# Altium footprint library SOD2513X120N.PcbLib: 1 footprints
Each footprint in its own frame and in the unit in brackets; x right, y up, seen from the top. Pads: shape width x height; smd on the part's side, far side on the other; paste and mask are expansions set on the pad; w line width, h text height; cw(c..) or ccw(c..) is an arc to the next point about the centre after c.
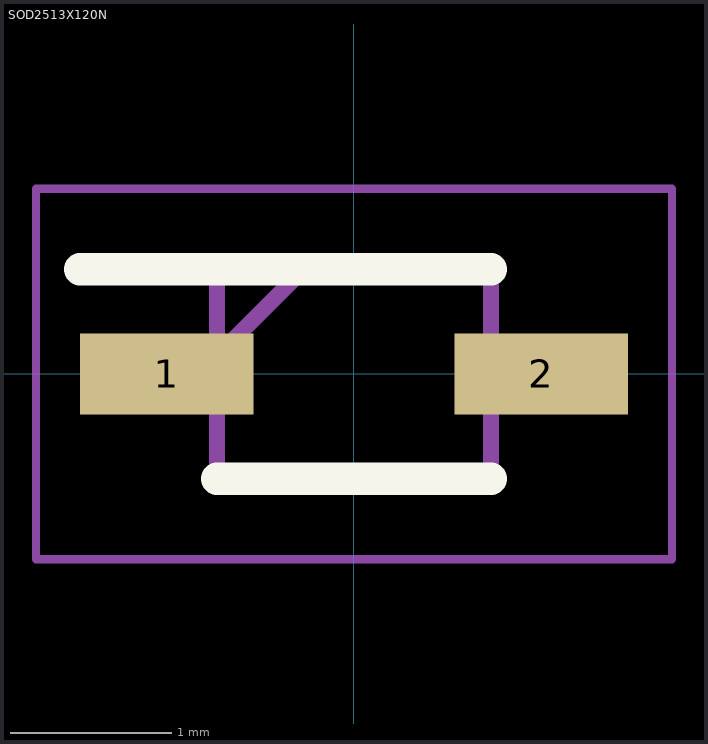
[diagram p0: the footprint, top view; thin cyan lines are the x and y axes]

## SOD2513X120N [mm]
pads (2):
  rect 1.075x0.5 smd: 1(-1.162,0) 2(1.162,0)
L26-Silk Screen Top (Multiple PADS layers...):
  lines w0.2: -1.7,0.65 0.85,0.65 ; -0.85,-0.65 0.85,-0.65
L15 (Multiple PADS layers...):
  lines w0.1: -0.85,0.112 -0.312,0.65 ; -0.85,-0.65 0.85,-0.65 0.85,0.65 -0.85,0.65 -0.85,-0.65
L20:
  lines w0.05: -1.975,-1.15 1.975,-1.15 1.975,1.15 -1.975,1.15 -1.975,-1.15
3D body: height 2.9, standoff -2.9, extent 0,0 0,0